# EAGLE library part 74HC74N,652 (library NXP_By_element14_Batch_1)
Dual D-type flip-flop with set and reset positive-edge trigger
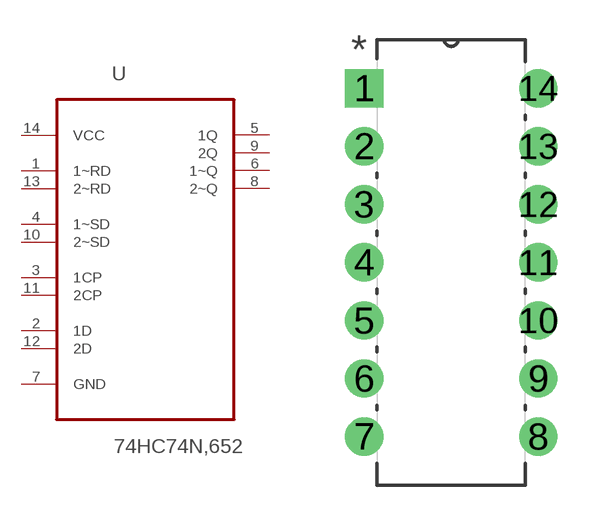
[diagram p155: symbol with the pads of DIP254P762X420-14; footprint DIP254P762X420-14]

Designator prefix U

## 74HC74N,652 (MPN: 74HC74N,652; OC_FARNELL: 1826801; OC_NEWARK: 71R2752; PACKAGE: DIP-14; SUPPLIER: NXP)  [DIP254P762X420-14]
1  1~RD  in
2  1D  in
3  1CP  in
4  1~SD  in
5  1Q  out
6  1~Q  out
7  GND  pas
8  2~Q  out
9  2Q  out
10  2~SD  in
11  2CP  in
12  2D  in
13  2~RD  in
14  VCC  pwr

## Footprint DIP254P762X420-14 (pad centres in mm)
drill 1.118 square: 1 -7.62,15.24
drill 1.118: 2 -7.62,12.7; 3 -7.62,10.16; 4 -7.62,7.62; 5 -7.62,5.08; 6 -7.62,2.54; 7 -7.62,0; 8 0,0; 9 0,2.54; 10 0,5.08; 11 0,7.62; 12 0,10.16; 13 0,12.7; 14 0,15.24